# EAGLE library part LTC2063 (library Bauteile)
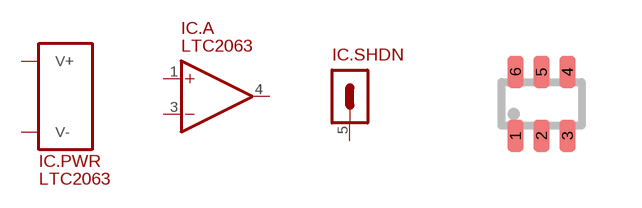
[diagram p92: symbol with the pads of SOT363; footprint SOT363]

Designator prefix IC; gates .PWR=SUPPLY_V+/V- .A=OP .SHDN=HEADER_1

## LTC2063  [SOT363]
1  .A:+IN
2  .PWR:V-
3  .A:-IN
4  .A:OUT
5  .SHDN:PIN1
6  .PWR:V+

## Footprint SOT363 (pad centres in mm)
SOT363 SC70-6 SC88 TSSOP-6 UMT6 US6 S-Mini6
smd 0.4 x 0.8: 1 -0.65,-0.8; 2 0,-0.8; 3 0.65,-0.8; 4 0.65,0.8; 5 0,0.8; 6 -0.65,0.8